# Altium footprint library 5v-5.5.PcbLib: 1 footprints
Each footprint in its own frame and in the unit in brackets; x right, y up, seen from the top. Pads: shape width x height; smd on the part's side, far side on the other; paste and mask are expansions set on the pad; w line width, h text height; cw(c..) or ccw(c..) is an arc to the next point about the centre after c.
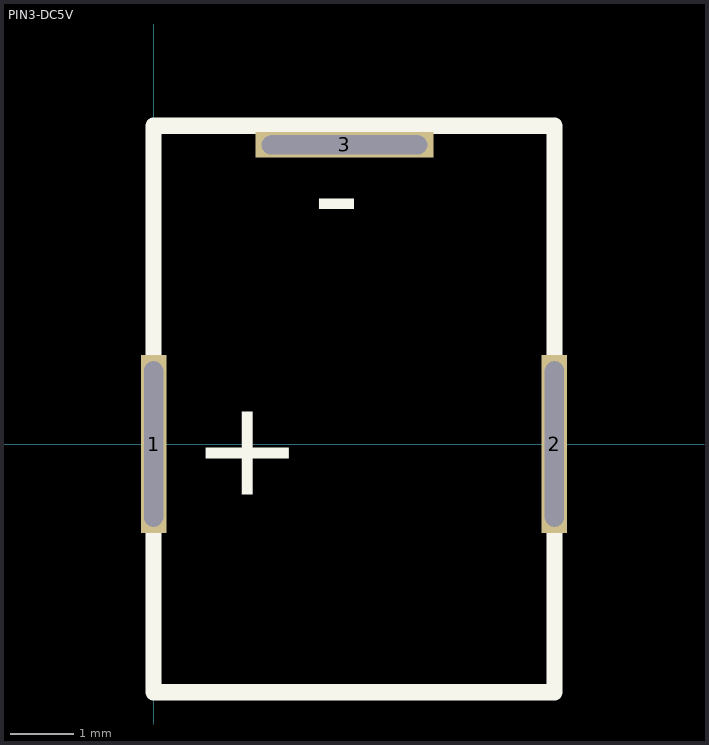
[diagram p0: the footprint, top view; thin cyan lines are the x and y axes]

## PIN3-DC5V [mm]
pads (3):
  rect 0.4x2.8 hole 0.3 slot 2.6 at 90 deg: 1(0,0) 2(6.3,0)
  rect 2.8x0.4 hole 0.3 slot 2.6 at 0 deg: 3(3,4.7)
Top Overlay:
  lines w0.254: 0,-3.9 6.3,-3.9 6.3,5 0,5 0,-3.9
  text "-" at 2.5,3.2 h1.52
  text "+" at 0.6,-0.8 h1.52